# EAGLE library part LTC5588IPF-1TRPBF (library Air_Link)
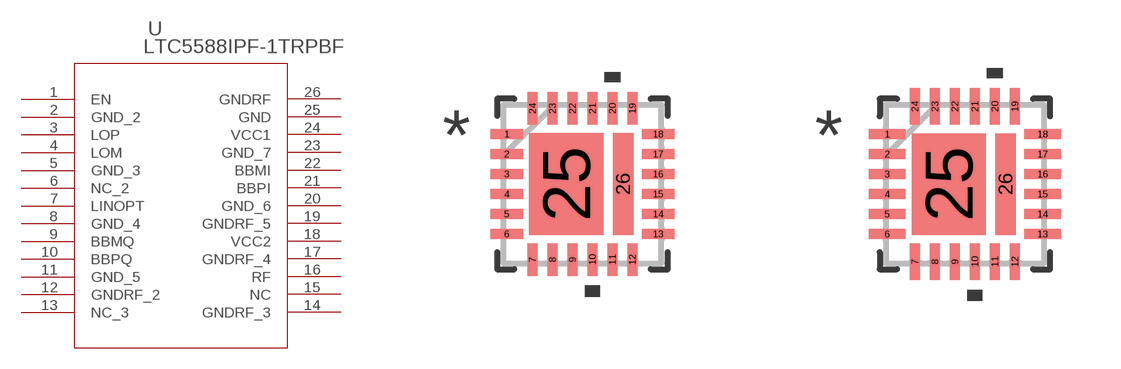
[diagram p4: symbol with the pads of UTQFN-24_PF_LIT; footprints UTQFN-24_PF_LIT, UTQFN-24_PF_LIT-M]

Designator prefix U

## LTC5588IPF-1TRPBF (COPYRIGHT: Copyright (C) 2025 Ultra Librarian. All rights reserved.; MANUFACTURER_PART_NUMBER: LTC5588IPF-1#TRPBF; MFR_NAME: Analog Devices Inc)  [UTQFN-24_PF_LIT]
1  EN  in
2  GND_2  pwr
3  LOP  in
4  LOM  in
5  GND_3  pwr
6  NC_2  nc
7  LINOPT  in
8  GND_4  pwr
9  BBMQ  in
10  BBPQ  in
11  GND_5  pwr
12  GNDRF_2  pwr
13  NC_3  nc
14  GNDRF_3  pwr
15  NC  nc
16  RF  out
17  GNDRF_4  pwr
18  VCC2  pwr
19  GNDRF_5  pwr
20  GND_6  pwr
21  BBPI  in
22  BBMI  in
23  GND_7  pwr
24  VCC1  pwr
25  GND  pwr
26  GNDRF  pwr

## LTC5588IPF-1TRPBFUTQFN-24_PF_LIT-M (COPYRIGHT: Copyright (C) 2025 Ultra Librarian. All rights reserved.; MANUFACTURER_PART_NUMBER: LTC5588IPF-1#TRPBF; MFR_NAME: Analog Devices Inc)  [UTQFN-24_PF_LIT-M]
Pads as for UTQFN-24_PF_LIT

## LTC5588IPF-1TRPBFUTQFN-24_PF_LIT-L (COPYRIGHT: Copyright (C) 2025 Ultra Librarian. All rights reserved.; MANUFACTURER_PART_NUMBER: LTC5588IPF-1#TRPBF; MFR_NAME: Analog Devices Inc)  [UTQFN-24_PF_LIT-L]
Pads as for UTQFN-24_PF_LIT

## Footprint UTQFN-24_PF_LIT (pad centres in mm)
smd 0.813 x 0.254: 1 -1.892,1.25; 2 -1.892,0.75; 3 -1.892,0.25; 4 -1.892,-0.25; 5 -1.892,-0.75; 6 -1.892,-1.25; 13 1.892,-1.25; 14 1.892,-0.75; 15 1.892,-0.25; 16 1.892,0.25; 17 1.892,0.75; 18 1.892,1.25
smd 0.254 x 0.813: 7 -1.25,-1.892; 8 -0.75,-1.892; 9 -0.25,-1.892; 10 0.25,-1.892; 11 0.75,-1.892; 12 1.25,-1.892; 19 1.25,1.892; 20 0.75,1.892; 21 0.25,1.892; 22 -0.25,1.892; 23 -0.75,1.892; 24 -1.25,1.892
smd 1.854 x 2.54: 25 -0.406,0
smd 0.508 x 2.54: 26 1.016,0

## Footprint UTQFN-24_PF_LIT-M (pad centres in mm)
smd 0.914 x 0.254: 1 -1.943,1.25; 2 -1.943,0.75; 3 -1.943,0.25; 4 -1.943,-0.25; 5 -1.943,-0.75; 6 -1.943,-1.25; 13 1.943,-1.25; 14 1.943,-0.75; 15 1.943,-0.25; 16 1.943,0.25; 17 1.943,0.75; 18 1.943,1.25
smd 0.254 x 0.914: 7 -1.25,-1.943; 8 -0.75,-1.943; 9 -0.25,-1.943; 10 0.25,-1.943; 11 0.75,-1.943; 12 1.25,-1.943; 19 1.25,1.943; 20 0.75,1.943; 21 0.25,1.943; 22 -0.25,1.943; 23 -0.75,1.943; 24 -1.25,1.943
smd 1.854 x 2.54: 25 -0.406,0
smd 0.508 x 2.54: 26 1.016,0

## Footprint UTQFN-24_PF_LIT-L (pad centres in mm)
smd 0.711 x 0.254: 1 -1.841,1.25; 2 -1.841,0.75; 3 -1.841,0.25; 4 -1.841,-0.25; 5 -1.841,-0.75; 6 -1.841,-1.25; 13 1.841,-1.25; 14 1.841,-0.75; 15 1.841,-0.25; 16 1.841,0.25; 17 1.841,0.75; 18 1.841,1.25
smd 0.254 x 0.711: 7 -1.25,-1.841; 8 -0.75,-1.841; 9 -0.25,-1.841; 10 0.25,-1.841; 11 0.75,-1.841; 12 1.25,-1.841; 19 1.25,1.841; 20 0.75,1.841; 21 0.25,1.841; 22 -0.25,1.841; 23 -0.75,1.841; 24 -1.25,1.841
smd 1.854 x 2.54: 25 -0.406,0
smd 0.508 x 2.54: 26 1.016,0